# Altium footprint library 1050170001.PcbLib: 1 footprints
Each footprint in its own frame and in the unit in brackets; x right, y up, seen from the top. Pads: shape width x height; smd on the part's side, far side on the other; paste and mask are expansions set on the pad; w line width, h text height; cw(c..) or ccw(c..) is an arc to the next point about the centre after c.
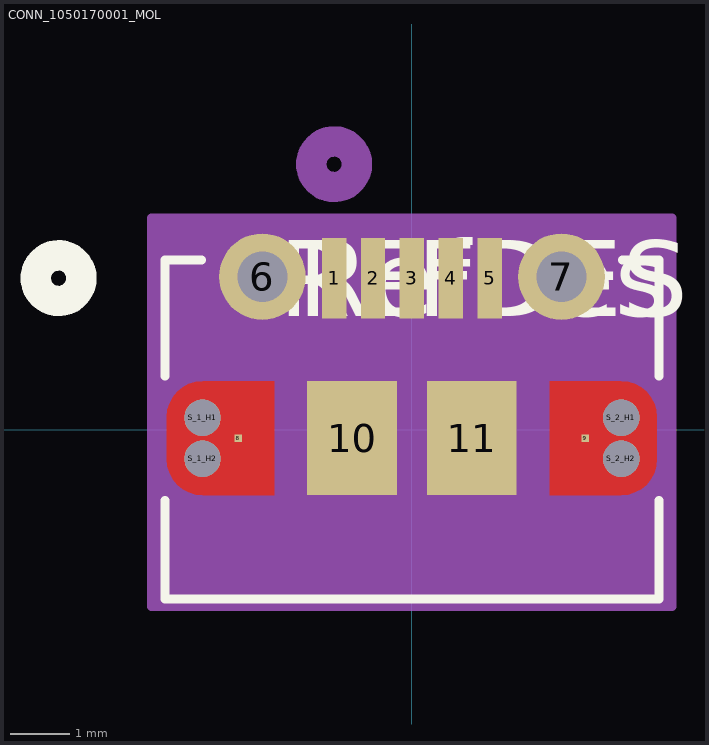
[diagram p0: the footprint, top view; thin cyan lines are the x and y axes]

## CONN_1050170001_MOL [mil]
pads (15):
  rect 16x53 smd paste+0 mask+0: 1(-51.18,99.61) 2(-25.59,99.61) 3(0,99.61) 4(25.59,99.61) 5(51.18,99.61)
  round 57 / inner round 60 / far side round 57 hole 33 paste-28.5 mask-28.5: 6(-98.43,100.59) 7(98.43,100.59)
  rect 5x5 smd paste-2.5 mask-2.5: 8(-114.17,-5.7) 9(114.17,-5.7)
  rect 59x75 smd paste-37.5 mask-37.5: 10(-39.37,-5.7) 11(39.37,-5.7)
  round 24 / inner round 60 / far side round 24 hole 24 unplated paste+0 mask+0: S_1_H1(-137.8,7.8) S_1_H2(-137.8,-19.2) S_2_H1(137.8,7.8) S_2_H2(137.8,-19.2)
Top Layer:
  region: 90.67,-43.2 90.67,31.8 137.8,31.8 142.38,31.34 146.79,30.01 150.85,27.83 154.41,24.91 157.33,21.35 159.51,17.29 160.84,12.88 161.3,8.3 161.3,-19.7 160.84,-24.29 159.51,-28.7 157.33,-32.76 154.41,-36.32 150.85,-39.24 146.79,-41.42 142.38,-42.75 137.8,-43.2
  region: -142.38,31.34 -137.67,31.8 -90.67,31.8 -90.67,-43.2 -137.67,-43.2 -142.38,-42.75 -146.79,-41.42 -150.85,-39.24 -154.41,-36.32 -157.33,-32.76 -159.51,-28.7 -160.84,-24.29 -161.3,-19.7 -161.3,8.3 -160.84,12.88 -159.51,17.29 -157.33,21.35 -154.41,24.91 -150.85,27.83 -146.79,30.01
Top Overlay:
  circle w20: c-232.5,99.61 r15
  lines w6: -162.5,-46.71 -162.5,-111.5 162.5,-111.5 162.5,-46.71 ; -162.5,35.3 -162.5,111.5 -138.57,111.5 ; 138.57,111.5 162.5,111.5 162.5,35.3
  text "RefDes" at -75,74.61 h50
  text "REFDES" at -87.5,74.61 h50
Bottom Overlay:
  circle w20: c-232.5,99.61 r15
Mechanical 13:
  circle w20: c-51.18,174.61 r15
  lines w1: -157.5,-106.5 157.5,-106.5 157.5,106.5 -157.5,106.5 -157.5,-106.5
  text "RefDes2" at -87.5,74.61 h50
Mechanical 15:
  region: 171.3,139.09 -171.3,139.09 -171.3,-116.5 171.3,-116.5
  lines w6: -171.3,-116.5 -171.3,139.09 171.3,139.09 171.3,-116.5 -171.3,-116.5
Multi-Layer:
  lines w24: -137.8,-19.2 -137.8,7.8 ; 137.8,-19.2 137.8,7.8